# EAGLE library part LM2750 (library myLib)
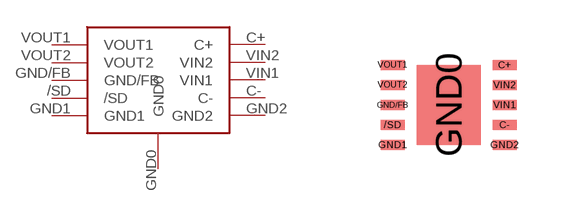
[diagram p8: symbol with the pads of LM2750SON; footprint LM2750SON]

Designator prefix -

## LM2750SON  [LM2750SON]
/SD  /SD
C+  C+
C-  C-
GND0  GND0
GND1  GND1
GND2  GND2
GND/FB  GND/FB
VIN1  VIN1
VIN2  VIN2
VOUT1  VOUT1
VOUT2  VOUT2

## Footprint LM2750SON (pad centres in mm)
smd 0.6 x 0.25: /SD -1.4,-0.5; C+ 1.4,1; C- 1.4,-0.5; GND1 -1.4,-1; GND2 1.4,-1; GND/FB -1.4,0; VIN1 1.4,0; VIN2 1.4,0.5; VOUT1 -1.4,1; VOUT2 -1.4,0.5
smd 1.6 x 2: GND0 0,0